# EAGLE library part DG408 (library dubec)
8-Channel CMOS Analog Multiplexer
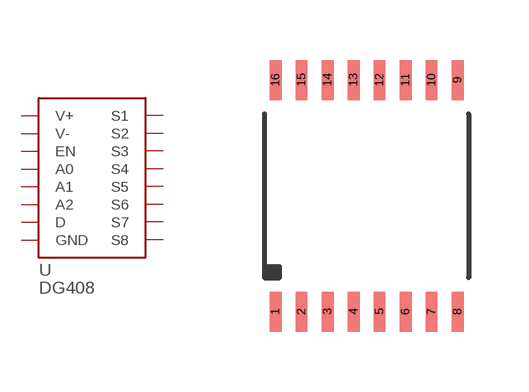
[diagram p18: symbol with the pads of 16-TSSOP; footprint 16-TSSOP]

Designator prefix -

## DG408DVZ (DIGIKEY_PART_#: DG408DVZ-TCT-ND; EUR: 2.52; MANUFACTURER: Intersil; MFG_PART_#: DG408DVZ-T; TEMP: -40°C ~ 85°C (TA))  [16-TSSOP]
1  A0  pas
2  EN  pas
3  V-  pas
4  S1  pas
5  S2  pas
6  S3  pas
7  S4  pas
8  D  pas
9  S8  pas
10  S7  pas
11  S6  pas
12  S5  pas
13  V+  pas
14  GND  pas
15  A2  pas
16  A1  pas

## Footprint 16-TSSOP (pad centres in mm)
smd 0.3 x 1: 1 -2.275,-2.9; 2 -1.625,-2.9; 3 -0.975,-2.9; 4 -0.325,-2.9; 5 0.325,-2.9; 6 0.975,-2.9; 7 1.625,-2.9; 8 2.275,-2.9; 9 2.275,2.9; 10 1.625,2.9; 11 0.975,2.9; 12 0.325,2.9; 13 -0.325,2.9; 14 -0.975,2.9; 15 -1.625,2.9; 16 -2.275,2.9